# Altium footprint library PcbLib1.PcbLib: 10 footprints
Each footprint in its own frame and in the unit in brackets; x right, y up, seen from the top. Pads: shape width x height; smd on the part's side, far side on the other; paste and mask are expansions set on the pad; w line width, h text height; cw(c..) or ccw(c..) is an arc to the next point about the centre after c.
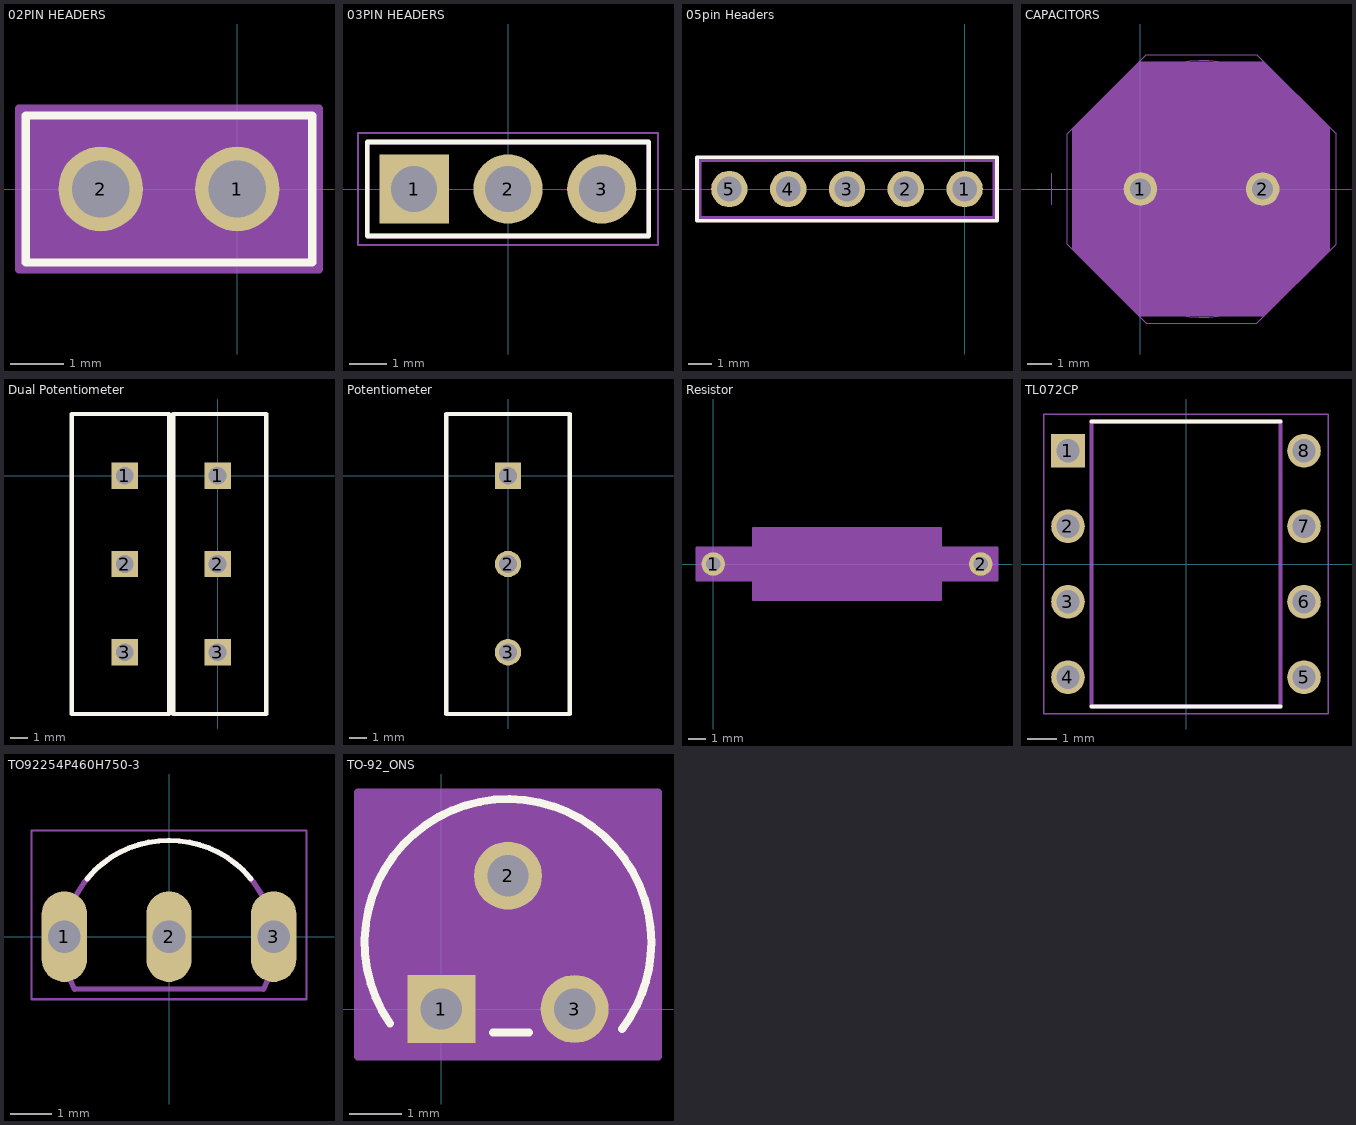
[diagram p0: the footprints below, top view; thin cyan lines are the x and y axes]

## 02PIN HEADERS [mil]
pads (2):
  round 62 / inner round 60 / far side round 62 hole 42 paste-99999 mask+0: 1(0,0) 2(-100,0)
Top Overlay:
  lines w6: -155,-54 55,-54 55,54 -155,54 -155,-54
  text ".Designator" at -155,69.99 h60
Mechanical 13:
  lines w1: -150,-49 50,-49 50,49 -150,49 -150,-49
Mechanical 15:
  region: 60,59 -160,59 -160,-59 60,-59
  lines w6: -160,-59 -160,59 60,59 60,-59 -160,-59
3D body "022284025.stp": height 384, standoff -121, extent -150,-49 50,49

## 03PIN HEADERS [mm]
height 8.74
pads (3):
  rect 1.875x1.875 / inner round 1.875 / far side rect 1.875x1.875 hole 1.25: 1(-2.54,0)
  round 1.875 hole 1.25: 2(0,0) 3(2.54,0)
Top Overlay:
  lines w0.127: -3.81,-1.27 -3.81,1.27 3.81,1.27 3.81,-1.27 -3.81,-1.27
  text ".Designator" at -4.064,1.651 h1.52
Mechanical 13:
  lines w0.127: -3.81,-1.27 -3.81,1.27 3.81,1.27 3.81,-1.27 -3.81,-1.27
Mechanical 15:
  lines w0.05: -4.06,-1.52 -4.06,1.52 4.06,1.52 4.06,-1.52 -4.06,-1.52
3D body "step_temp.STEP": height 7.27, standoff -4.27, extent -3.81,-1.27 3.81,1.27

## 05pin Headers [mil]
pads (5):
  round 62 hole 42: 1(0,0) 2(-100,0) 3(-200,0) 4(-300,0) 5(-400,0)
Top Overlay:
  lines w6: -455,-54 55,-54 55,54 -455,54 -455,-54
  text ".Designator" at -425,69.99 h60
Mechanical 13:
  lines w6: -450,-49 50,-49 50,49 -450,49 -450,-49
3D body "022284055.stp": height 388, standoff -117, extent -450,-49 50,49

## CAPACITORS [mil]
pads (2):
  round 54 / inner round 60 / far side round 54 hole 34 paste-99999 mask+0: 1(0,0) 2(196.85,0)
Top Overlay:
  text ".Designator" at 105,-5 h50
Mechanical 13:
  circle w0: c98.43,0 r206.5
  lines w1: -168.07,0 -118.07,0 ; -143.07,-25 -143.07,25
Mechanical 15:
  region: -110,97.22 -2.22,205 199.07,205 305,99.07 305,-99.07 199.07,-205 -2.22,-205 -110,-97.22
  lines w1: -118.07,-89.15 -118.07,89.15 9.28,216.5 187.57,216.5 314.93,89.15 314.93,-89.15 187.57,-216.5 9.28,-216.5 -118.07,-89.15
3D body "CAP_BX_10x20_RUB.step": height 866.61, standoff -172.01, extent -108.07,-206.37 305.88,206.37

## Dual Potentiometer [mil]
pads (6):
  rect 60x60 hole 40 square paste-99999 mask-99999: 1(-210,0) 1(0,0) 2(-210,-200) 2(0,-200) 3(0,-400)
  rect 60x60 / inner round 60 / far side rect 60x60 hole 40 square paste-99999 mask-99999: 3(-210,-400)
Top Overlay:
  lines w10: -330,-540 -330,140 -110,140 -110,-540 -330,-540 ; -100,-540 -100,140 110,140 110,-540 -100,-540
Top Solder:
  region: -30,-430 -30,-370 30,-370 30,-430
  region: -30,-230 -30,-170 30,-170 30,-230
  region: -30,-30 -30,30 30,30 30,-30
  region: -240,-430 -240,-370 -180,-370 -180,-430
  region: -240,-230 -240,-170 -180,-170 -180,-230
  region: -240,-30 -240,30 -180,30 -180,-30
Bottom Solder:
  region: -30,-430 -30,-370 30,-370 30,-430
  region: -30,-230 -30,-170 30,-170 30,-230
  region: -30,-30 -30,30 30,30 30,-30
  region: -240,-430 -240,-370 -180,-370 -180,-430
  region: -240,-230 -240,-170 -180,-170 -180,-230
  region: -240,-30 -240,30 -180,30 -180,-30
3D body "Pot_two_PCB.STEP": height 853.08, standoff -114.84, extent -1103.35,-537 89.35,132.29

## Potentiometer [mil]
pads (3):
  rect 60x60 hole 40: 1(0,0)
  round 60 hole 40: 2(0,-200) 3(0,-400)
Top Overlay:
  lines w10: -140,-540 -140,140 140,140 140,-540 -140,-540
3D body "PotentiometerB10K.SLDPRT": height 884.26, standoff -155.72, extent -876.61,-534.65 210,134.65

## Resistor [mil]
pads (2):
  round 52 / inner round 60 / far side round 52 hole 32 paste-99999 mask+0: 1(0,0) 2(590.55,0)
Top Overlay:
  text ".Designator" at -15,99.99 h60
Mechanical 13:
  lines w1: 0,0 98.43,0 ; 492.13,0 590.55,0 ; 98.43,-68.9 492.13,-68.9 492.13,68.9 98.43,68.9 98.43,-68.9
Mechanical 15:
  region: 88.43,-36 -36,-36 -36,36 88.43,36 88.43,78.9 502.13,78.9 502.13,36 626.55,36 626.55,-36 502.13,-36 502.13,-78.9 88.43,-78.9
  region: 492.13,-68.9 98.43,-68.9 98.43,68.9 492.13,68.9
  lines w6: -36,-36 -36,36 88.43,36 88.43,78.9 502.13,78.9 502.13,36 626.55,36 626.55,-36 502.13,-36 502.13,-78.9 88.43,-78.9 88.43,-36 -36,-36
3D body "res2_1-1625885-7_TEC.step": height 137.33, standoff -100, extent -12.52,-70 600,67.56

## TL072CP [mm]
pads (8):
  rect 1.13x1.13 / inner round 1.13 / far side rect 1.13x1.13 hole 0.78 mask+0.102: 1(-3.97,3.81)
  round 1.13 hole 0.78 mask+0.102: 2(-3.97,1.27) 3(-3.97,-1.27) 4(-3.97,-3.81) 5(3.97,-3.81) 6(3.97,-1.27) 7(3.97,1.27) 8(3.97,3.81)
Top Overlay:
  lines w0.127: -3.175,-4.795 3.175,-4.795 ; -3.175,4.795 3.175,4.795
  text ".Designator" at -4.699,5.151 h2.5
Mechanical 13:
  lines w0.127: -3.175,-4.795 -3.175,4.795 3.175,4.795 3.175,-4.795 -3.175,-4.795
Mechanical 15:
  lines w0.05: -4.785,-5.045 -4.785,5.045 4.785,5.045 4.785,-5.045 -4.785,-5.045
3D body "step_temp.STEP": height 5.08, standoff -3, extent -4.153,-4.795 4.153,4.795

## TO92254P460H750-3 [mm]
height 7.5
pads (3):
  oval 1.1x2.2 hole 0.79: 1(-2.54,0) 2(0,0) 3(2.54,0)
Top Overlay:
  lines w0.127: -1.989,1.399 cw(c-0.036,-0.182) 0.008,2.33 ; -0.008,2.33 cw(c0.036,-0.182) 1.989,1.399
  text ".Designator" at -2.794,3.206 h2
Mechanical 13:
  lines w0.127: -2.3,-1.27 2.3,-1.27 ; -2.294,-1.281 cw(c-0.038,-0.181) 0.006,2.33 ; -0.006,2.33 cw(c0.038,-0.181) 2.294,-1.281
Mechanical 15:
  lines w0.05: -3.34,-1.52 3.34,-1.52 3.34,2.58 -3.34,2.58 -3.34,-1.52
3D body "step_temp.STEP": height 8.09, standoff -9.01, extent -2.74,-1.27 2.74,2.33

## TO-92_ONS [mil]
pads (3):
  rect 51x51 / inner round 60 / far side rect 51x51 hole 31 paste-99999 mask+0: 1(0,0)
  round 51 / inner round 60 / far side round 51 hole 31 paste-99999 mask+0: 2(50,100) 3(100,0)
Top Overlay:
  lines w6: -38.6,-10.88 cw(c50,50) 157.5,50 cw(c50,50) 135.49,-15.17 ; 38.6,-17.5 65.59,-17.5
  text ".Designator" at -55,171.24 h78.74
Mechanical 13:
  circle w0: c-42.5,0 r5
  lines w0: -31.24,-12.5 cw(c50,50) 131.24,-12.5
  lines w1: -31.24,-12.5 131.24,-12.5
  lines w6: -10,0 10,0 ; 0,-10 0,10
Mechanical 15:
  region: 162.5,-35.5 -62.5,-35.5 -62.5,162.5 162.5,162.5
  lines w6: -62.5,-35.5 162.5,-35.5 162.5,162.5 -62.5,162.5 -62.5,-35.5
3D body "TO-92_ONS.step": height 210, standoff -184.02, extent -52.39,-10.51 152.39,152.04